# Altium schematic symbol library Seeed-OPL-Relay.SCHLIB: 5 symbols
Pins are listed as number, name and electrical type; pins without a type are passive.

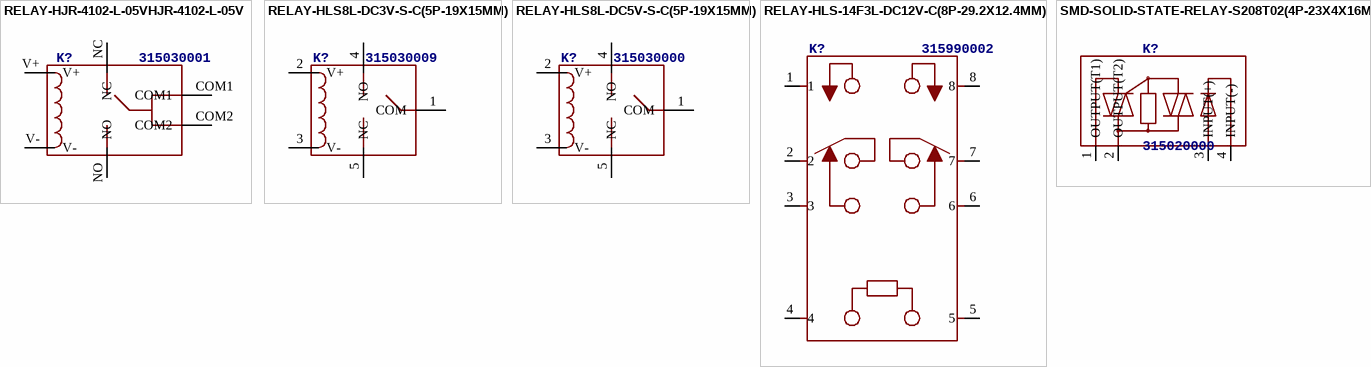
[diagram p0: symbols RELAY-HJR-4102-L-05VHJR-4102-L-05V to SMD-SOLID-STATE-RELAY-S208T02(4P-23X4X16MM)]

## RELAY-HJR-4102-L-05VHJR-4102-L-05V
designator K?, comment 315030001
footprint REY6-15.4X10.4X11.3MM
pins: COM1, COM2, NC, NO, V+, V-

## RELAY-HLS8L-DC3V-S-C(5P-19X15MM)
designator K?, comment 315030009
MPN: HLS8L-DC3V-S-C
footprint REY5-19.0X15.0X15.0MM
pins: 1 COM, 2 V+, 3 V-, 4 NO, 5 NC

## RELAY-HLS8L-DC5V-S-C(5P-19X15MM)
designator K?, comment 315030000
MPN: HLS8L-DC5V-S-C
footprint REY5-19.0X15.0X15.0MM
pins: 1 COM, 2 V+, 3 V-, 4 NO, 5 NC

## RELAY-HLS-14F3L-DC12V-C(8P-29.2X12.4MM)
designator K?, comment 315990002
MPN: HLS-14F3L-DC12V-C
footprint REY8-29.2X12.4X20.4MM
pins: 1, 2, 3, 4, 5, 6, 7, 8

## SMD-SOLID-STATE-RELAY-S208T02(4P-23X4X16MM)
designator K?, comment 315020000
MPN: S208T02
footprint REY4-23.0X4.0X16.0MM
pins: 1 OUTPUT(T1), 2 OUTPUT(T2), 3 INPUT(+), 4 INPUT(-)